# EAGLE library part BTS4130QGA (library mosfet-infineon)
BTS711L1 Smart High-Side Power Switch, Four Channels, VBB 43V, R(ON) one-200mOhm SOIC127P1030X265-20N-1
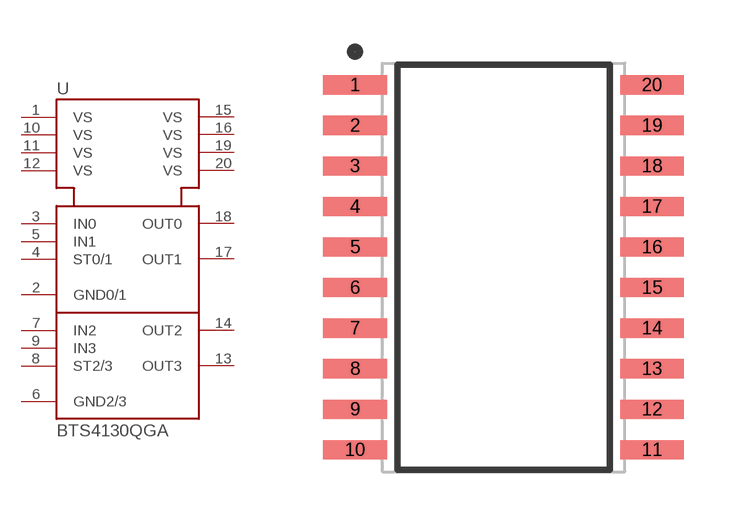
[diagram p27: symbol with the pads of SOIC127P1030X265-20N-1; footprint SOIC127P1030X265-20N-1]

Designator prefix U

## BTS4130QGA  [SOIC127P1030X265-20N-1]
1  VS  pwr
2  GND0/1  pwr
3  IN0  in
4  ST0/1  oc
5  IN1  in
6  GND2/3  pwr
7  IN2  in
8  ST2/3  oc
9  IN3  in
10  VS  pwr
11  VS  pwr
12  VS  pwr
13  OUT3  out
14  OUT2  out
15  VS  pwr
16  VS  pwr
17  OUT1  out
18  OUT0  out
19  VS  pwr
20  VS  pwr

## Footprint SOIC127P1030X265-20N-1 (pad centres in mm)
Original name SOIC127P1030X265-20N-1 Max Component Height - 2.65mm
smd 2 x 0.6: 1 -4.65,5.715; 2 -4.65,4.445; 3 -4.65,3.175; 4 -4.65,1.905; 5 -4.65,0.635; 6 -4.65,-0.635; 7 -4.65,-1.905; 8 -4.65,-3.175; 9 -4.65,-4.445; 10 -4.65,-5.715; 11 4.65,-5.715; 12 4.65,-4.445; 13 4.65,-3.175; 14 4.65,-1.905; 15 4.65,-0.635; 16 4.65,0.635; 17 4.65,1.905; 18 4.65,3.175; 19 4.65,4.445; 20 4.65,5.715